# Altium footprint library optic_fiber_tx.PcbLib: 6 footprints
Each footprint in its own frame and in the unit in brackets; x right, y up, seen from the top. Pads: shape width x height; smd on the part's side, far side on the other; paste and mask are expansions set on the pad; w line width, h text height; cw(c..) or ccw(c..) is an arc to the next point about the centre after c.
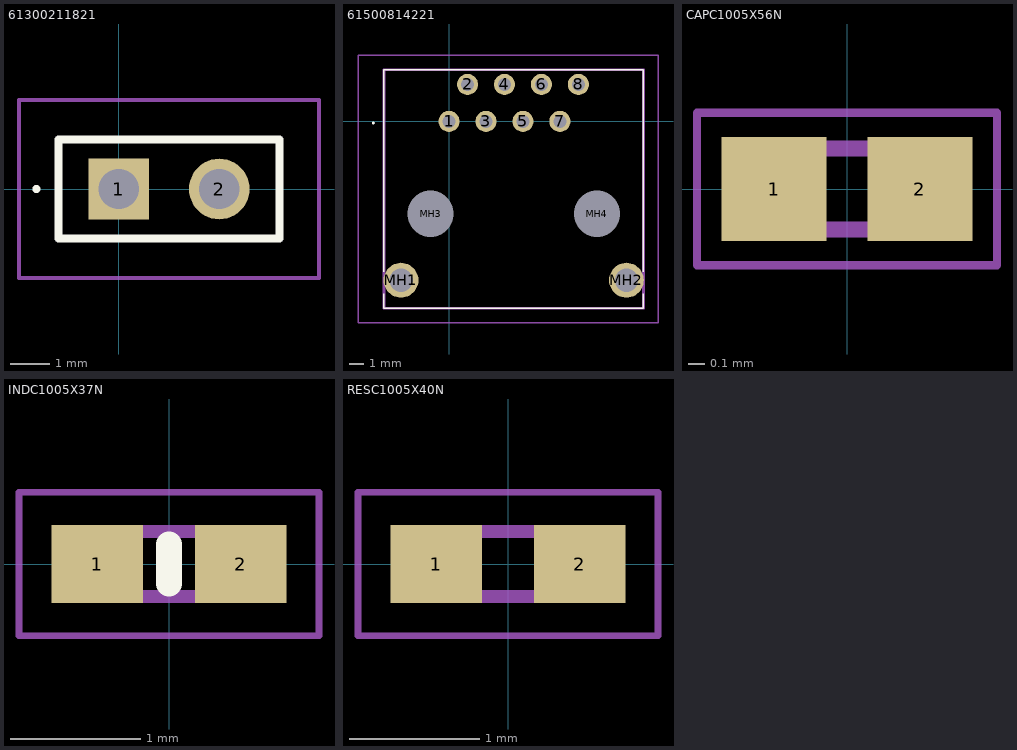
[diagram p0: the footprints below, top view; thin cyan lines are the x and y axes]

## 61300211821 [mm]
pads (2):
  rect 1.53x1.53 hole 1.02: 1(0,0)
  round 1.53 hole 1.02: 2(2.54,0)
Top Overlay:
  lines w0.1: -2.13,0 cw(c-2.08,0) -2.03,0 cw(c-2.08,0) -2.13,0
  lines w0.2: -1.52,-1.25 -1.52,1.25 4.06,1.25 4.06,-1.25 -1.52,-1.25
Mechanical 13:
  lines w0.1: -1.52,-1.25 -1.52,1.25 4.06,1.25 4.06,-1.25 -1.52,-1.25
Mechanical 15:
  lines w0.1: -2.52,-2.25 -2.52,2.25 5.06,2.25 5.06,-2.25 -2.52,-2.25
3D body "61300211821.stp": height 8.75, standoff -5, extent -1.52,-1.25 4.06,1.25

## 61500814221 [mm]
pads (12):
  round 1.45 hole 0.9: 1(0,0) 2(1.27,2.54) 3(2.54,0) 4(3.81,2.54) 5(5.08,0) 6(6.35,2.54) 7(7.62,0) 8(8.89,2.54)
  round 2.4 hole 1.6: MH1(-3.305,-10.92) MH2(12.195,-10.92)
  round 1.585 hole 3.17 unplated: MH3(-1.27,-6.35) MH4(10.16,-6.35)
Top Overlay:
  lines w0.1: -4.475,-11.85 -4.475,-12.85 13.365,-12.85 13.365,-11.85 ; -4.475,-10.35 -4.475,3.55 13.365,3.55 13.365,-10.35
  lines w0.102: -5.26,-0.105 cw(c-5.209,-0.105) -5.158,-0.105 cw(c-5.209,-0.105) -5.26,-0.105
Mechanical 13:
  lines w0.2: -4.475,-12.85 -4.475,3.55 13.365,3.55 13.365,-12.85 -4.475,-12.85
Mechanical 15:
  lines w0.1: -6.26,-13.85 -6.26,4.55 14.365,4.55 14.365,-13.85 -6.26,-13.85
3D body "61500814221.stp": height 13.6, standoff -4, extent -3.395,-17.16 12.405,4.04

## CAPC1005X56N [mm]
pads (2):
  rect 0.65x0.64 smd: 1(-0.45,0) 2(0.45,0)
Mechanical 13:
  lines w0.1: -0.5,-0.25 0.5,-0.25 0.5,0.25 -0.5,0.25 -0.5,-0.25
Mechanical 15:
  lines w0.05: -0.925,-0.47 0.925,-0.47 0.925,0.47 -0.925,0.47 -0.925,-0.47
3D body "04026D106MAT2A.stp": height 0.56, standoff 0, extent -0.5,-0.25 0.5,0.25

## INDC1005X37N [mm]
pads (2):
  rect 0.7x0.6 smd: 1(-0.55,0) 2(0.55,0)
Top Overlay:
  lines w0.2: 0,-0.15 0,0.15
Mechanical 13:
  lines w0.1: -0.5,-0.25 -0.5,0.25 0.5,0.25 0.5,-0.25 -0.5,-0.25
Mechanical 15:
  lines w0.05: -1.15,-0.55 -1.15,0.55 1.15,0.55 1.15,-0.55 -1.15,-0.55
3D body "ATFC-0402-1N0-BT.stp": height 0.37, standoff 0, extent -0.5,-0.25 0.5,0.25

## PCBComponent_1 [mm]

## RESC1005X40N [mm]
pads (2):
  rect 0.7x0.6 smd: 1(-0.55,0) 2(0.55,0)
Mechanical 13:
  lines w0.1: -0.5,-0.25 -0.5,0.25 0.5,0.25 0.5,-0.25 -0.5,-0.25
Mechanical 15:
  lines w0.05: -1.15,-0.55 -1.15,0.55 1.15,0.55 1.15,-0.55 -1.15,-0.55
3D body "CRCW04024K70JNEDHP.stp": height 0.4, standoff 0, extent -0.5,-0.25 0.5,0.25